# EAGLE library part LTC1477CS8 (library Artemis)
LT-LTC1477-S8-8
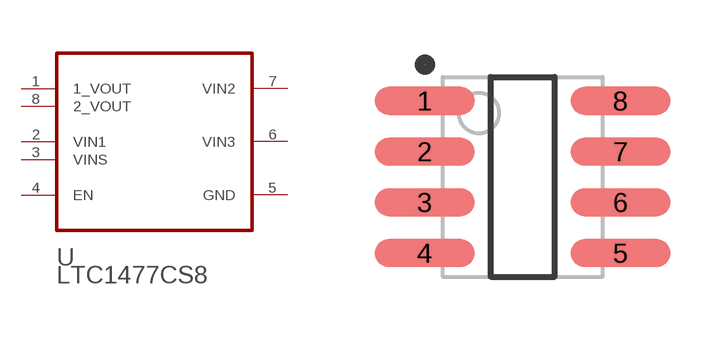
[diagram p0: symbol with the pads of LINEAR_TECHNOLOGY_LTC1477CS8_2; footprint LINEAR_TECHNOLOGY_LTC1477CS8_2]

Designator prefix U

## LTC1477CS8LINEAR_TECHNOLOGY_LTC1477CS8_0_2 (CIIVA_IDS: 1432281; COMPONENT_LINK_1_DESCRIPTION: Manufacturer URL; COMPONENT_LINK_1_URL: http://www.linear.com/; COMPONENT_LINK_3_DESCRIPTION: Package Specification; COMPONENT_LINK_3_URL: http://cds.linear.com/docs/en/packaging/05081610_G_SO8.pdf; DATASHEET: http://cds.linear.com/docs/en/datasheet/lt1477.pdf; FOOTPRINT_VARIANT_NAME_0: Level C; FOOTPRINT_VARIANT_NAME_1: Level B; FOOTPRINT_VARIANT_NAME_2: Level A; IMPORTED: yes; IMPORTED_FROM: vault; IMPORT_TS: 1521843574; MF: Linear Technology; MOUNTING_TECHNOLOGY: Surface Mount; MPN: LTC1477CS8; PACKAGE: S8-8; PACKAGE_DESCRIPTION: 8-Pin Plastic Small Outline (Narrow .150 Inch), Body 4.9 x 3.9 mm, Pitch 1.27 mm; PACKAGE_VERSION: Rev. G, 03/2012; PREFIX: U; RELEASE_DATE: 1377817843; ROHS: No; VAULT_GUID: 635B2D7C-EC07-409E-A57F-666E02CD64AC; VAULT_REVISION: 6B8B57C2-2CB3-4970-A31A-1EB58B636423)  [LINEAR_TECHNOLOGY_LTC1477CS8_2]
1  1_VOUT  pwr
2  VIN1  pwr
3  VINS  pwr
4  EN  in
5  GND  pwr
6  VIN3  pwr
7  VIN2  pwr
8  2_VOUT  pwr

## Footprint LINEAR_TECHNOLOGY_LTC1477CS8_2 (pad centres in mm)
LT-LTC1477-S8-8
smd 2.5 x 0.7: 1 -2.45,1.905; 2 -2.45,0.635; 3 -2.45,-0.635; 4 -2.45,-1.905; 5 2.45,-1.905; 6 2.45,-0.635; 7 2.45,0.635; 8 2.45,1.905